# EAGLE library part 1-770182-0 (library con-amp2)
MINI UNIVERSAL MATE-N-LOCK (TM) Vertical 9 Pol. Source: http://catalog.tycoelectronics.com .. ENG_CD_770182_L.pdf
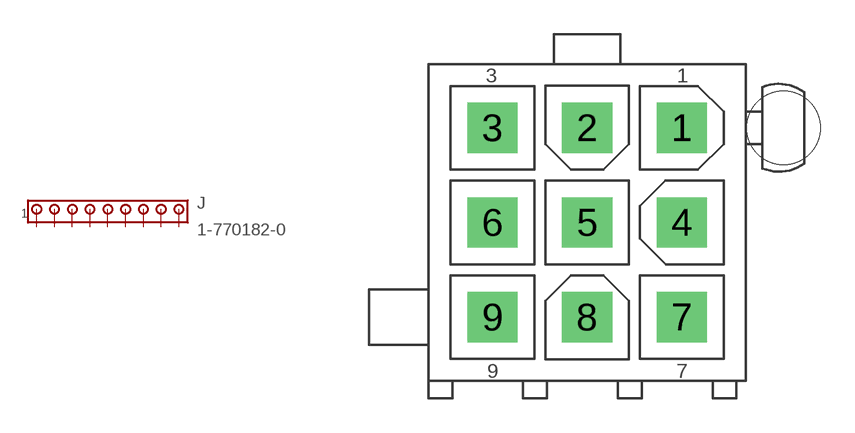
[diagram p169: symbol with the pads of 1-770182-0; footprint 1-770182-0]

Designator prefix J

## 1-770182-0  [1-770182-0]
1  1  pas
2  2  pas
3  3  pas
4  4  pas
5  5  pas
6  6  pas
7  7  pas
8  8  pas
9  9  pas

## Footprint 1-770182-0 (pad centres in mm)
MINI UNIVERSAL MATE-N-LOCK (TM) Vertical 9 Pol. Source: http://catalog.tycoelectronics.com .. ENG_CD_770182_L.pdf
drill 1.4 pad 2.2 square: 1 4.14,4.14; 2 0,4.14; 3 -4.14,4.14; 4 4.14,0; 5 0,0; 6 -4.14,0; 7 4.14,-4.14; 8 0,-4.14; 9 -4.14,-4.14
hole 3.2 at 8.59,4.14